# EAGLE library part JS202011SCQN (library c&k_components)
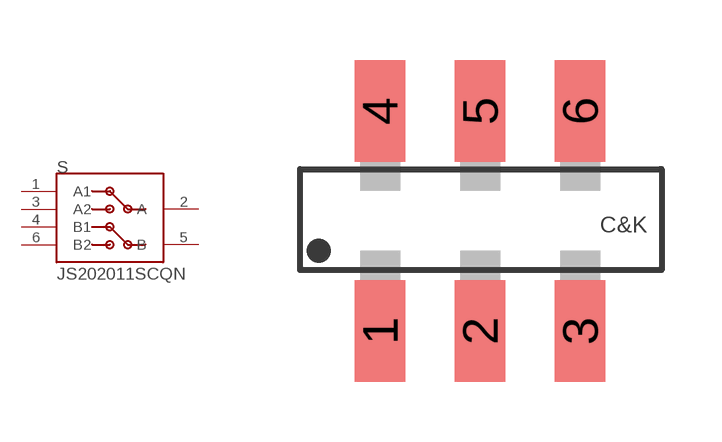
[diagram p0: symbol with the pads of SMD; footprint SMD]

Designator prefix S

## JS202011SCQN  [SMD]
1  A1
2  A
3  A2
4  B1
5  B
6  B2

## Footprint SMD (pad centres in mm)
Small Outline Transistor 6 lead
smd 1.27 x 2.54: 1 2,-0.75; 2 4.5,-0.75; 3 7,-0.75; 4 2,4.75; 5 4.5,4.75; 6 7,4.75